# Altium schematic symbol library Resistor.SchLib: 94 symbols
Pins are listed as number, name and electrical type; pins without a type are passive.

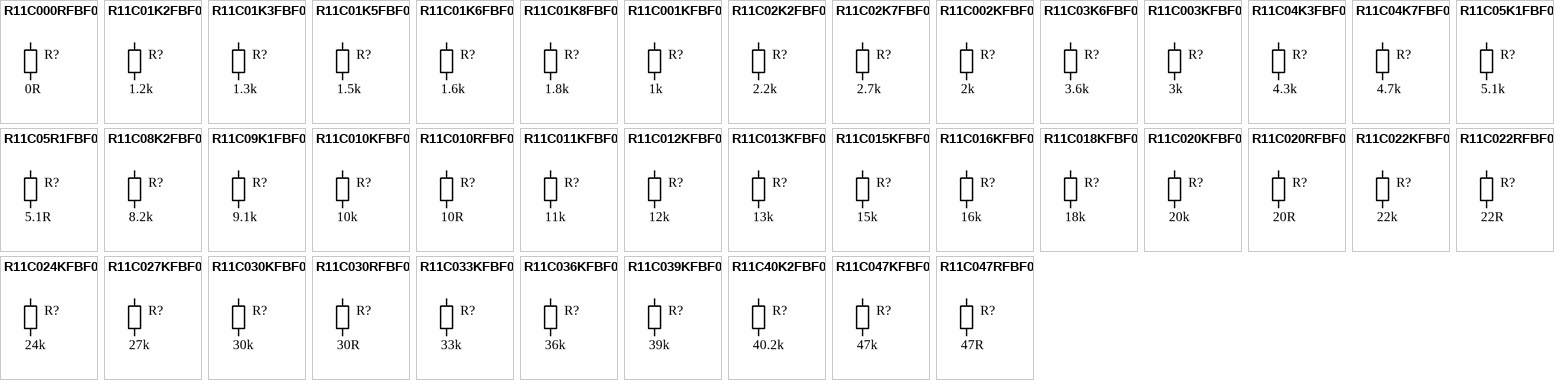
[diagram p0: symbols R11C000RFBF0 to R11C047RFBF0]

## R11C000RFBF0
designator R?, comment value 0R  (hidden comment: Res)
SMD Resistor 0R 1% 1/10W 0603 100PPM; TemperatureRange: -55°C to 150°C; VenderID: RES-0603-0R-1%; Published: 1-Jun-2017; Publisher: GreenBox; MountType: SMT; PackageReference: 0603; Manufacturer: *
simulation model RES (Resistor)
signal-integrity model Res
footprint 0603-R (0603, Body 1.6 x 0.8 mm (LxW typ))
pins: 1, 2

## R11C01K2FBF0
designator R?, comment value 1.2k  (hidden comment: Res)
SMD Resistor 1.2k 1% 1/10W 0603 100PPM; TemperatureRange: -55°C to 150°C; VenderID: RES-0603-1k2-1%; Published: 1-Jun-2017; Publisher: GreenBox; MountType: SMT; PackageReference: 0603; Manufacturer: *
simulation model RES (Resistor)
signal-integrity model Res
footprint 0603-R (0603, Body 1.6 x 0.8 mm (LxW typ))
pins: 1, 2

## R11C01K3FBF0
designator R?, comment value 1.3k  (hidden comment: Res)
SMD Resistor 1.3k 1% 1/10W 0603 100PPM; TemperatureRange: -55°C to 150°C; VenderID: RES-0603-1k3-1%; Published: 1-Jun-2017; Publisher: GreenBox; MountType: SMT; PackageReference: 0603; Manufacturer: *
simulation model RES (Resistor)
signal-integrity model Res
footprint 0603-R (0603, Body 1.6 x 0.8 mm (LxW typ))
pins: 1, 2

## R11C01K5FBF0
designator R?, comment value 1.5k  (hidden comment: Res)
SMD Resistor 1.5k 1% 1/10W 0603 100PPM; TemperatureRange: -55°C to 150°C; VenderID: RES-0603-1k5-1%; Published: 1-Jun-2017; Publisher: GreenBox; MountType: SMT; PackageReference: 0603; Manufacturer: *
simulation model RES (Resistor)
signal-integrity model Res
footprint 0603-R (0603, Body 1.6 x 0.8 mm (LxW typ))
pins: 1, 2

## R11C01K6FBF0
designator R?, comment value 1.6k  (hidden comment: Res)
SMD Resistor 1.6k 1% 1/10W 0603 100PPM; TemperatureRange: -55°C to 150°C; VenderID: RES-0603-1k6-1%; Published: 1-Jun-2017; Publisher: GreenBox; MountType: SMT; PackageReference: 0603; Manufacturer: *
simulation model RES (Resistor)
signal-integrity model Res
footprint 0603-R (0603, Body 1.6 x 0.8 mm (LxW typ))
pins: 1, 2

## R11C01K8FBF0
designator R?, comment value 1.8k  (hidden comment: Res)
SMD Resistor 1.8k 1% 1/10W 0603 100PPM; TemperatureRange: -55°C to 150°C; VenderID: RES-0603-1k8-1%; Published: 1-Jun-2017; Publisher: GreenBox; MountType: SMT; PackageReference: 0603; Manufacturer: *
simulation model RES (Resistor)
signal-integrity model Res
footprint 0603-R (0603, Body 1.6 x 0.8 mm (LxW typ))
pins: 1, 2

## R11C001KFBF0
designator R?, comment value 1k  (hidden comment: Res)
SMD Resistor 1k 1% 1/10W 0603 100PPM; TemperatureRange: -55°C to 150°C; VenderID: RES-0603-1k-1%; Published: 1-Jun-2017; Publisher: GreenBox; MountType: SMT; PackageReference: 0603; Manufacturer: *
simulation model RES (Resistor)
signal-integrity model Res
footprint 0603-R (0603, Body 1.6 x 0.8 mm (LxW typ))
pins: 1, 2

## R11C02K2FBF0
designator R?, comment value 2.2k  (hidden comment: Res)
SMD Resistor 2.2k 1% 1/10W 0603 100PPM; TemperatureRange: -55°C to 150°C; VenderID: RES-0603-2k2-1%; Published: 1-Jun-2017; Publisher: GreenBox; MountType: SMT; PackageReference: 0603; Manufacturer: *
simulation model RES (Resistor)
signal-integrity model Res
footprint 0603-R (0603, Body 1.6 x 0.8 mm (LxW typ))
pins: 1, 2

## R11C02K7FBF0
designator R?, comment value 2.7k  (hidden comment: Res)
SMD Resistor 2.7k 1% 1/10W 0603 100PPM; TemperatureRange: -55°C to 150°C; VenderID: RES-0603-2k7-1%; Published: 1-Jun-2017; Publisher: GreenBox; MountType: SMT; PackageReference: 0603; Manufacturer: *
simulation model RES (Resistor)
signal-integrity model Res
footprint 0603-R (0603, Body 1.6 x 0.8 mm (LxW typ))
pins: 1, 2

## R11C002KFBF0
designator R?, comment value 2k  (hidden comment: Res)
SMD Resistor 2k 1% 1/10W 0603 100PPM; TemperatureRange: -55°C to 150°C; VenderID: RES-0603-2k-1%; Published: 1-Jun-2017; Publisher: GreenBox; MountType: SMT; PackageReference: 0603; Manufacturer: *
simulation model RES (Resistor)
signal-integrity model Res
footprint 0603-R (0603, Body 1.6 x 0.8 mm (LxW typ))
pins: 1, 2

## R11C03K6FBF0
designator R?, comment value 3.6k  (hidden comment: Res)
SMD Resistor 3.6k 1% 1/10W 0603 100PPM; TemperatureRange: -55°C to 150°C; VenderID: RES-0603-3k6-1%; Published: 1-Jun-2017; Publisher: GreenBox; MountType: SMT; PackageReference: 0603; Manufacturer: *
simulation model RES (Resistor)
signal-integrity model Res
footprint 0603-R (0603, Body 1.6 x 0.8 mm (LxW typ))
pins: 1, 2

## R11C003KFBF0
designator R?, comment value 3k  (hidden comment: Res)
SMD Resistor 3k 1% 1/10W 0603 100PPM; TemperatureRange: -55°C to 150°C; VenderID: RES-0603-3k-1%; Published: 1-Jun-2017; Publisher: GreenBox; MountType: SMT; PackageReference: 0603; Manufacturer: *
simulation model RES (Resistor)
signal-integrity model Res
footprint 0603-R (0603, Body 1.6 x 0.8 mm (LxW typ))
pins: 1, 2

## R11C04K3FBF0
designator R?, comment value 4.3k  (hidden comment: Res)
SMD Resistor 4.3k 1% 1/10W 0603 100PPM; TemperatureRange: -55°C to 150°C; VenderID: RES-0603-4k3-1%; Published: 1-Jun-2017; Publisher: GreenBox; MountType: SMT; PackageReference: 0603; Manufacturer: *
simulation model RES (Resistor)
signal-integrity model Res
footprint 0603-R (0603, Body 1.6 x 0.8 mm (LxW typ))
pins: 1, 2

## R11C04K7FBF0
designator R?, comment value 4.7k  (hidden comment: Res)
SMD Resistor 4.7k 1% 1/10W 0603 100PPM; TemperatureRange: -55°C to 150°C; VenderID: RES-0603-4k7-1%; Published: 1-Jun-2017; Publisher: GreenBox; MountType: SMT; PackageReference: 0603; Manufacturer: *
simulation model RES (Resistor)
signal-integrity model Res
footprint 0603-R (0603, Body 1.6 x 0.8 mm (LxW typ))
pins: 1, 2

## R11C05K1FBF0
designator R?, comment value 5.1k  (hidden comment: Res)
SMD Resistor 5.1k 1% 1/10W 0603 100PPM; TemperatureRange: -55°C to 150°C; VenderID: RES-0603-5k1-1%; Published: 1-Jun-2017; Publisher: GreenBox; MountType: SMT; PackageReference: 0603; Manufacturer: *
simulation model RES (Resistor)
signal-integrity model Res
footprint 0603-R (0603, Body 1.6 x 0.8 mm (LxW typ))
pins: 1, 2

## R11C05R1FBF0
designator R?, comment value 5.1R  (hidden comment: Res)
SMD Resistor 5.1R 1% 1/10W 0603 100PPM; TemperatureRange: -55°C to 150°C; VenderID: RES-0603-5R1-1%; Published: 1-Jun-2017; Publisher: GreenBox; MountType: SMT; PackageReference: 0603; Manufacturer: *
simulation model RES (Resistor)
signal-integrity model Res
footprint 0603-R (0603, Body 1.6 x 0.8 mm (LxW typ))
pins: 1, 2

## R11C08K2FBF0
designator R?, comment value 8.2k  (hidden comment: Res)
SMD Resistor 8.2k 1% 1/10W 0603 100PPM; TemperatureRange: -55°C to 150°C; VenderID: RES-0603-8k2-1%; Published: 1-Jun-2017; Publisher: GreenBox; MountType: SMT; PackageReference: 0603; Manufacturer: *
simulation model RES (Resistor)
signal-integrity model Res
footprint 0603-R (0603, Body 1.6 x 0.8 mm (LxW typ))
pins: 1, 2

## R11C09K1FBF0
designator R?, comment value 9.1k  (hidden comment: Res)
SMD Resistor 9.1k 1% 1/10W 0603 100PPM; TemperatureRange: -55°C to 150°C; VenderID: RES-0603-9k1-1%; Published: 1-Jun-2017; Publisher: GreenBox; MountType: SMT; PackageReference: 0603; Manufacturer: *
simulation model RES (Resistor)
signal-integrity model Res
footprint 0603-R (0603, Body 1.6 x 0.8 mm (LxW typ))
pins: 1, 2

## R11C010KFBF0
designator R?, comment value 10k  (hidden comment: Res)
SMD Resistor 10k 1% 1/10W 0603 100PPM; TemperatureRange: -55°C to 150°C; VenderID: RES-0603-10k-1%; Published: 1-Jun-2017; Publisher: GreenBox; MountType: SMT; PackageReference: 0603; Manufacturer: *
simulation model RES (Resistor)
signal-integrity model Res
footprint 0603-R (0603, Body 1.6 x 0.8 mm (LxW typ))
pins: 1, 2

## R11C010RFBF0
designator R?, comment value 10R  (hidden comment: Res)
SMD Resistor 10R 1% 1/10W 0603 100PPM; TemperatureRange: -55°C to 150°C; VenderID: RES-0603-10R-1%; Published: 1-Jun-2017; Publisher: GreenBox; MountType: SMT; PackageReference: 0603; Manufacturer: *
simulation model RES (Resistor)
signal-integrity model Res
footprint 0603-R (0603, Body 1.6 x 0.8 mm (LxW typ))
pins: 1, 2

## R11C011KFBF0
designator R?, comment value 11k  (hidden comment: Res)
SMD Resistor 11k 1% 1/10W 0603 100PPM; TemperatureRange: -55°C to 150°C; VenderID: RES-0603-11k-1%; Published: 1-Jun-2017; Publisher: GreenBox; MountType: SMT; PackageReference: 0603; Manufacturer: *
simulation model RES (Resistor)
signal-integrity model Res
footprint 0603-R (0603, Body 1.6 x 0.8 mm (LxW typ))
pins: 1, 2

## R11C012KFBF0
designator R?, comment value 12k  (hidden comment: Res)
SMD Resistor 12k 1% 1/10W 0603 100PPM; TemperatureRange: -55°C to 150°C; VenderID: RES-0603-12k-1%; Published: 1-Jun-2017; Publisher: GreenBox; MountType: SMT; PackageReference: 0603; Manufacturer: *
simulation model RES (Resistor)
signal-integrity model Res
footprint 0603-R (0603, Body 1.6 x 0.8 mm (LxW typ))
pins: 1, 2

## R11C013KFBF0
designator R?, comment value 13k  (hidden comment: Res)
SMD Resistor 13k 1% 1/10W 0603 100PPM; TemperatureRange: -55°C to 150°C; VenderID: RES-0603-13k-1%; Published: 1-Jun-2017; Publisher: GreenBox; MountType: SMT; PackageReference: 0603; Manufacturer: *
simulation model RES (Resistor)
signal-integrity model Res
footprint 0603-R (0603, Body 1.6 x 0.8 mm (LxW typ))
pins: 1, 2

## R11C015KFBF0
designator R?, comment value 15k  (hidden comment: Res)
SMD Resistor 15k 1% 1/10W 0603 100PPM; TemperatureRange: -55°C to 150°C; VenderID: RES-0603-15k-1%; Published: 1-Jun-2017; Publisher: GreenBox; MountType: SMT; PackageReference: 0603; Manufacturer: *
simulation model RES (Resistor)
signal-integrity model Res
footprint 0603-R (0603, Body 1.6 x 0.8 mm (LxW typ))
pins: 1, 2

## R11C016KFBF0
designator R?, comment value 16k  (hidden comment: Res)
SMD Resistor 16k 1% 1/10W 0603 100PPM; TemperatureRange: -55°C to 150°C; VenderID: RES-0603-16k-1%; Published: 1-Jun-2017; Publisher: GreenBox; MountType: SMT; PackageReference: 0603; Manufacturer: *
simulation model RES (Resistor)
signal-integrity model Res
footprint 0603-R (0603, Body 1.6 x 0.8 mm (LxW typ))
pins: 1, 2

## R11C018KFBF0
designator R?, comment value 18k  (hidden comment: Res)
SMD Resistor 18k 1% 1/10W 0603 100PPM; TemperatureRange: -55°C to 150°C; VenderID: RES-0603-18k-1%; Published: 1-Jun-2017; Publisher: GreenBox; MountType: SMT; PackageReference: 0603; Manufacturer: *
simulation model RES (Resistor)
signal-integrity model Res
footprint 0603-R (0603, Body 1.6 x 0.8 mm (LxW typ))
pins: 1, 2

## R11C020KFBF0
designator R?, comment value 20k  (hidden comment: Res)
SMD Resistor 20k 1% 1/10W 0603 100PPM; TemperatureRange: -55°C to 150°C; VenderID: RES-0603-20k-1%; Published: 1-Jun-2017; Publisher: GreenBox; MountType: SMT; PackageReference: 0603; Manufacturer: *
simulation model RES (Resistor)
signal-integrity model Res
footprint 0603-R (0603, Body 1.6 x 0.8 mm (LxW typ))
pins: 1, 2

## R11C020RFBF0
designator R?, comment value 20R  (hidden comment: Res)
SMD Resistor 20R 1% 1/10W 0603 100PPM; TemperatureRange: -55°C to 150°C; VenderID: RES-0603-20R-1%; Published: 1-Jun-2017; Publisher: GreenBox; MountType: SMT; PackageReference: 0603; Manufacturer: *
simulation model RES (Resistor)
signal-integrity model Res
footprint 0603-R (0603, Body 1.6 x 0.8 mm (LxW typ))
pins: 1, 2

## R11C022KFBF0
designator R?, comment value 22k  (hidden comment: Res)
SMD Resistor 22k 1% 1/10W 0603 100PPM; TemperatureRange: -55°C to 150°C; VenderID: RES-0603-22k-1%; Published: 1-Jun-2017; Publisher: GreenBox; MountType: SMT; PackageReference: 0603; Manufacturer: *
simulation model RES (Resistor)
signal-integrity model Res
footprint 0603-R (0603, Body 1.6 x 0.8 mm (LxW typ))
pins: 1, 2

## R11C022RFBF0
designator R?, comment value 22R  (hidden comment: Res)
SMD Resistor 22R 1% 1/10W 0603 100PPM; TemperatureRange: -55°C to 150°C; VenderID: RES-0603-22R-1%; Published: 1-Jun-2017; Publisher: GreenBox; MountType: SMT; PackageReference: 0603; Manufacturer: *
simulation model RES (Resistor)
signal-integrity model Res
footprint 0603-R (0603, Body 1.6 x 0.8 mm (LxW typ))
pins: 1, 2

## R11C024KFBF0
designator R?, comment value 24k  (hidden comment: Res)
SMD Resistor 24k 1% 1/10W 0603 100PPM; TemperatureRange: -55°C to 150°C; VenderID: RES-0603-24k-1%; Published: 1-Jun-2017; Publisher: GreenBox; MountType: SMT; PackageReference: 0603; Manufacturer: *
simulation model RES (Resistor)
signal-integrity model Res
footprint 0603-R (0603, Body 1.6 x 0.8 mm (LxW typ))
pins: 1, 2

## R11C027KFBF0
designator R?, comment value 27k  (hidden comment: Res)
SMD Resistor 27k 1% 1/10W 0603 100PPM; TemperatureRange: -55°C to 150°C; VenderID: RES-0603-27k-1%; Published: 1-Jun-2017; Publisher: GreenBox; MountType: SMT; PackageReference: 0603; Manufacturer: *
simulation model RES (Resistor)
signal-integrity model Res
footprint 0603-R (0603, Body 1.6 x 0.8 mm (LxW typ))
pins: 1, 2

## R11C030KFBF0
designator R?, comment value 30k  (hidden comment: Res)
SMD Resistor 30k 1% 1/10W 0603 100PPM; TemperatureRange: -55°C to 150°C; VenderID: RES-0603-30k-1%; Published: 1-Jun-2017; Publisher: GreenBox; MountType: SMT; PackageReference: 0603; Manufacturer: *
simulation model RES (Resistor)
signal-integrity model Res
footprint 0603-R (0603, Body 1.6 x 0.8 mm (LxW typ))
pins: 1, 2

## R11C030RFBF0
designator R?, comment value 30R  (hidden comment: Res)
SMD Resistor 30R 1% 1/10W 0603 100PPM; TemperatureRange: -55°C to 150°C; VenderID: RES-0603-30R-1%; Published: 1-Jun-2017; Publisher: GreenBox; MountType: SMT; PackageReference: 0603; Manufacturer: *
simulation model RES (Resistor)
signal-integrity model Res
footprint 0603-R (0603, Body 1.6 x 0.8 mm (LxW typ))
pins: 1, 2

## R11C033KFBF0
designator R?, comment value 33k  (hidden comment: Res)
SMD Resistor 33k 1% 1/10W 0603 100PPM; TemperatureRange: -55°C to 150°C; VenderID: RES-0603-33k-1%; Published: 1-Jun-2017; Publisher: GreenBox; MountType: SMT; PackageReference: 0603; Manufacturer: *
simulation model RES (Resistor)
signal-integrity model Res
footprint 0603-R (0603, Body 1.6 x 0.8 mm (LxW typ))
pins: 1, 2

## R11C036KFBF0
designator R?, comment value 36k  (hidden comment: Res)
SMD Resistor 36k 1% 1/10W 0603 100PPM; TemperatureRange: -55°C to 150°C; VenderID: RES-0603-36k-1%; Published: 1-Jun-2017; Publisher: GreenBox; MountType: SMT; PackageReference: 0603; Manufacturer: *
simulation model RES (Resistor)
signal-integrity model Res
footprint 0603-R (0603, Body 1.6 x 0.8 mm (LxW typ))
pins: 1, 2

## R11C039KFBF0
designator R?, comment value 39k  (hidden comment: Res)
SMD Resistor 39k 1% 1/10W 0603 100PPM; TemperatureRange: -55°C to 150°C; VenderID: RES-0603-39k-1%; Published: 1-Jun-2017; Publisher: GreenBox; MountType: SMT; PackageReference: 0603; Manufacturer: *
simulation model RES (Resistor)
signal-integrity model Res
footprint 0603-R (0603, Body 1.6 x 0.8 mm (LxW typ))
pins: 1, 2

## R11C40K2FBF0
designator R?, comment value 40.2k  (hidden comment: Res)
SMD Resistor 40.2k 1% 1/10W 0603 100PPM; TemperatureRange: -55°C to 150°C; VenderID: RES-0603-40k2-1%; Published: 1-Jul-2018; Publisher: GreenBox; MountType: SMT; PackageReference: 0603; Manufacturer: *
simulation model RES (Resistor)
signal-integrity model Res
footprint 0603-R (0603, Body 1.6 x 0.8 mm (LxW typ))
pins: 1, 2

## R11C047KFBF0
designator R?, comment value 47k  (hidden comment: Res)
SMD Resistor 47k 1% 1/10W 0603 100PPM; TemperatureRange: -55°C to 150°C; VenderID: RES-0603-47k-1%; Published: 1-Jun-2017; Publisher: GreenBox; MountType: SMT; PackageReference: 0603; Manufacturer: *
simulation model RES (Resistor)
signal-integrity model Res
footprint 0603-R (0603, Body 1.6 x 0.8 mm (LxW typ))
pins: 1, 2

## R11C047RFBF0
designator R?, comment value 47R  (hidden comment: Res)
SMD Resistor 47R 1% 1/10W 0603 100PPM; TemperatureRange: -55°C to 150°C; VenderID: RES-0603-47R-1%; Published: 1-Jun-2017; Publisher: GreenBox; MountType: SMT; PackageReference: 0603; Manufacturer: *
simulation model RES (Resistor)
signal-integrity model Res
footprint 0603-R (0603, Body 1.6 x 0.8 mm (LxW typ))
pins: 1, 2

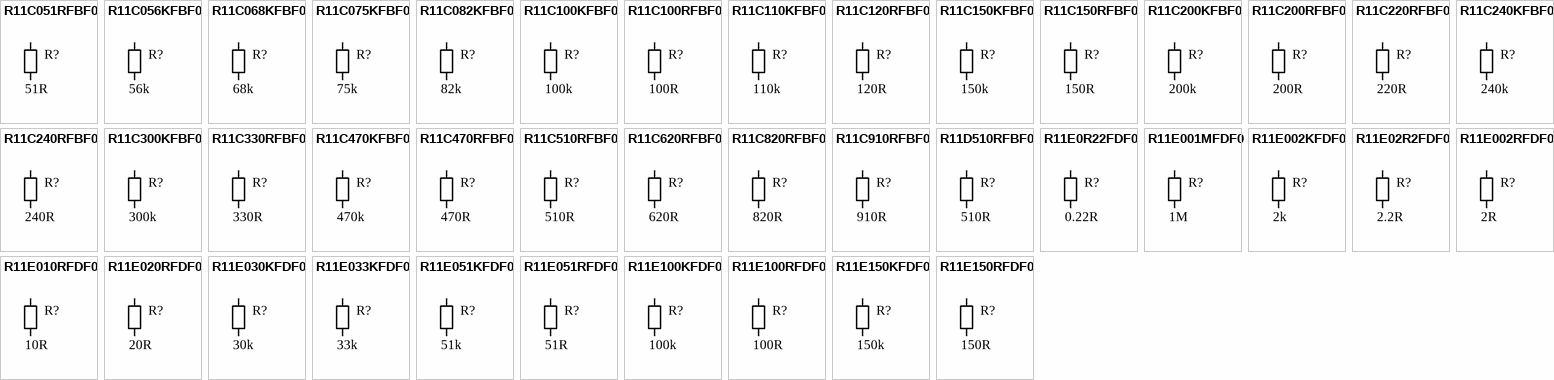
[diagram p1: symbols R11C051RFBF0 to R11E150RFDF0]

## R11C051RFBF0
designator R?, comment value 51R  (hidden comment: Res)
SMD Resistor 51R 1% 1/10W 0603 100PPM; TemperatureRange: -55°C to 150°C; VenderID: RES-0603-51R-1%; Published: 1-Jun-2017; Publisher: GreenBox; MountType: SMT; PackageReference: 0603; Manufacturer: *
simulation model RES (Resistor)
signal-integrity model Res
footprint 0603-R (0603, Body 1.6 x 0.8 mm (LxW typ))
pins: 1, 2

## R11C056KFBF0
designator R?, comment value 56k  (hidden comment: Res)
SMD Resistor 56k 1% 1/10W 0603 100PPM; TemperatureRange: -55°C to 150°C; VenderID: RES-0603-56k-1%; Published: 1-Jun-2017; Publisher: GreenBox; MountType: SMT; PackageReference: 0603; Manufacturer: *
simulation model RES (Resistor)
signal-integrity model Res
footprint 0603-R (0603, Body 1.6 x 0.8 mm (LxW typ))
pins: 1, 2

## R11C068KFBF0
designator R?, comment value 68k  (hidden comment: Res)
SMD Resistor 68k 1% 1/10W 0603 100PPM; TemperatureRange: -55°C to 150°C; VenderID: RES-0603-68k-1%; Published: 1-Jun-2017; Publisher: GreenBox; MountType: SMT; PackageReference: 0603; Manufacturer: *
simulation model RES (Resistor)
signal-integrity model Res
footprint 0603-R (0603, Body 1.6 x 0.8 mm (LxW typ))
pins: 1, 2

## R11C075KFBF0
designator R?, comment value 75k  (hidden comment: Res)
SMD Resistor 75k 1% 1/10W 0603 100PPM; TemperatureRange: -55°C to 150°C; VenderID: RES-0603-75k-1%; Published: 1-Jun-2017; Publisher: GreenBox; MountType: SMT; PackageReference: 0603; Manufacturer: *
simulation model RES (Resistor)
signal-integrity model Res
footprint 0603-R (0603, Body 1.6 x 0.8 mm (LxW typ))
pins: 1, 2

## R11C082KFBF0
designator R?, comment value 82k  (hidden comment: Res)
SMD Resistor 82k 1% 1/10W 0603 100PPM; TemperatureRange: -55°C to 150°C; VenderID: RES-0603-82k-1%; Published: 1-Jun-2017; Publisher: GreenBox; MountType: SMT; PackageReference: 0603; Manufacturer: *
simulation model RES (Resistor)
signal-integrity model Res
footprint 0603-R (0603, Body 1.6 x 0.8 mm (LxW typ))
pins: 1, 2

## R11C100KFBF0
designator R?, comment value 100k  (hidden comment: Res)
SMD Resistor 100k 1% 1/10W 0603 100PPM; TemperatureRange: -55°C to 150°C; VenderID: RES-0603-100k-1%; Published: 1-Jun-2017; Publisher: GreenBox; MountType: SMT; PackageReference: 0603; Manufacturer: *
simulation model RES (Resistor)
signal-integrity model Res
footprint 0603-R (0603, Body 1.6 x 0.8 mm (LxW typ))
pins: 1, 2

## R11C100RFBF0
designator R?, comment value 100R  (hidden comment: Res)
SMD Resistor 100R 1% 1/10W 0603 100PPM; TemperatureRange: -55°C to 150°C; VenderID: RES-0603-100R-1%; Published: 1-Jun-2017; Publisher: GreenBox; MountType: SMT; PackageReference: 0603; Manufacturer: *
simulation model RES (Resistor)
signal-integrity model Res
footprint 0603-R (0603, Body 1.6 x 0.8 mm (LxW typ))
pins: 1, 2

## R11C110KFBF0
designator R?, comment value 110k  (hidden comment: Res)
SMD Resistor 110k 1% 1/10W 0603 100PPM; TemperatureRange: -55°C to 150°C; VenderID: RES-0603-110k-1%; Published: 1-Jun-2017; Publisher: GreenBox; MountType: SMT; PackageReference: 0603; Manufacturer: *
simulation model RES (Resistor)
signal-integrity model Res
footprint 0603-R (0603, Body 1.6 x 0.8 mm (LxW typ))
pins: 1, 2

## R11C120RFBF0
designator R?, comment value 120R  (hidden comment: Res)
SMD Resistor 120R 1% 1/10W 0603 100PPM; TemperatureRange: -55°C to 150°C; VenderID: RES-0603-120R-1%; Published: 1-Jun-2017; Publisher: GreenBox; MountType: SMT; PackageReference: 0603; Manufacturer: *
simulation model RES (Resistor)
signal-integrity model Res
footprint 0603-R (0603, Body 1.6 x 0.8 mm (LxW typ))
pins: 1, 2

## R11C150KFBF0
designator R?, comment value 150k  (hidden comment: Res)
SMD Resistor 150k 1% 1/10W 0603 100PPM; TemperatureRange: -55°C to 150°C; VenderID: RES-0603-150k-1%; Published: 1-Jun-2017; Publisher: GreenBox; MountType: SMT; PackageReference: 0603; Manufacturer: *
simulation model RES (Resistor)
signal-integrity model Res
footprint 0603-R (0603, Body 1.6 x 0.8 mm (LxW typ))
pins: 1, 2

## R11C150RFBF0
designator R?, comment value 150R  (hidden comment: Res)
SMD Resistor 150R 1% 1/10W 0603 100PPM; TemperatureRange: -55°C to 150°C; VenderID: RES-0603-150R-1%; Published: 1-Jun-2017; Publisher: GreenBox; MountType: SMT; PackageReference: 0603; Manufacturer: *
simulation model RES (Resistor)
signal-integrity model Res
footprint 0603-R (0603, Body 1.6 x 0.8 mm (LxW typ))
pins: 1, 2

## R11C200KFBF0
designator R?, comment value 200k  (hidden comment: Res)
SMD Resistor 200k 1% 1/10W 0603 100PPM; TemperatureRange: -55°C to 150°C; VenderID: RES-0603-200k-1%; Published: 1-Jun-2017; Publisher: GreenBox; MountType: SMT; PackageReference: 0603; Manufacturer: *
simulation model RES (Resistor)
signal-integrity model Res
footprint 0603-R (0603, Body 1.6 x 0.8 mm (LxW typ))
pins: 1, 2

## R11C200RFBF0
designator R?, comment value 200R  (hidden comment: Res)
SMD Resistor 200R 1% 1/10W 0603 100PPM; TemperatureRange: -55°C to 150°C; VenderID: RES-0603-200R-1%; Published: 1-Jun-2017; Publisher: GreenBox; MountType: SMT; PackageReference: 0603; Manufacturer: *
simulation model RES (Resistor)
signal-integrity model Res
footprint 0603-R (0603, Body 1.6 x 0.8 mm (LxW typ))
pins: 1, 2

## R11C220RFBF0
designator R?, comment value 220R  (hidden comment: Res)
SMD Resistor 220R 1% 1/10W 0603 100PPM; TemperatureRange: -55°C to 150°C; VenderID: RES-0603-220R-1%; Published: 1-Jun-2017; Publisher: GreenBox; MountType: SMT; PackageReference: 0603; Manufacturer: *
simulation model RES (Resistor)
signal-integrity model Res
footprint 0603-R (0603, Body 1.6 x 0.8 mm (LxW typ))
pins: 1, 2

## R11C240KFBF0
designator R?, comment value 240k  (hidden comment: Res)
SMD Resistor 240k 1% 1/10W 0603 100PPM; TemperatureRange: -55°C to 150°C; VenderID: RES-0603-240k-1%; Published: 1-Jun-2017; Publisher: GreenBox; MountType: SMT; PackageReference: 0603; Manufacturer: *
simulation model RES (Resistor)
signal-integrity model Res
footprint 0603-R (0603, Body 1.6 x 0.8 mm (LxW typ))
pins: 1, 2

## R11C240RFBF0
designator R?, comment value 240R  (hidden comment: Res)
SMD Resistor 240R 1% 1/10W 0603 100PPM; TemperatureRange: -55°C to 150°C; VenderID: RES-0603-240R-1%; Published: 1-Jun-2017; Publisher: GreenBox; MountType: SMT; PackageReference: 0603; Manufacturer: *
simulation model RES (Resistor)
signal-integrity model Res
footprint 0603-R (0603, Body 1.6 x 0.8 mm (LxW typ))
pins: 1, 2

## R11C300KFBF0
designator R?, comment value 300k  (hidden comment: Res)
SMD Resistor 300k 1% 1/10W 0603 100PPM; TemperatureRange: -55°C to 150°C; VenderID: RES-0603-300k-1%; Published: 1-Jun-2017; Publisher: GreenBox; MountType: SMT; PackageReference: 0603; Manufacturer: *
simulation model RES (Resistor)
signal-integrity model Res
footprint 0603-R (0603, Body 1.6 x 0.8 mm (LxW typ))
pins: 1, 2

## R11C330RFBF0
designator R?, comment value 330R  (hidden comment: Res)
SMD Resistor 330R 1% 1/10W 0603 100PPM; TemperatureRange: -55°C to 150°C; VenderID: RES-0603-330R-1%; Published: 1-Jun-2017; Publisher: GreenBox; MountType: SMT; PackageReference: 0603; Manufacturer: *
simulation model RES (Resistor)
signal-integrity model Res
footprint 0603-R (0603, Body 1.6 x 0.8 mm (LxW typ))
pins: 1, 2

## R11C470KFBF0
designator R?, comment value 470k  (hidden comment: Res)
SMD Resistor 470k 1% 1/10W 0603 100PPM; TemperatureRange: -55°C to 150°C; VenderID: RES-0603-470k-1%; Published: 1-Jun-2017; Publisher: GreenBox; MountType: SMT; PackageReference: 0603; Manufacturer: *
simulation model RES (Resistor)
signal-integrity model Res
footprint 0603-R (0603, Body 1.6 x 0.8 mm (LxW typ))
pins: 1, 2

## R11C470RFBF0
designator R?, comment value 470R  (hidden comment: Res)
SMD Resistor 470R 1% 1/10W 0603 100PPM; TemperatureRange: -55°C to 150°C; VenderID: RES-0603-470R-1%; Published: 1-Jun-2017; Publisher: GreenBox; MountType: SMT; PackageReference: 0603; Manufacturer: *
simulation model RES (Resistor)
signal-integrity model Res
footprint 0603-R (0603, Body 1.6 x 0.8 mm (LxW typ))
pins: 1, 2

## R11C510RFBF0
designator R?, comment value 510R  (hidden comment: Res)
SMD Resistor 510R 1% 1/10W 0603 100PPM; TemperatureRange: -55°C to 150°C; VenderID: RES-0603-510R-1%; Published: 1-Jun-2017; Publisher: GreenBox; MountType: SMT; PackageReference: 0603; Manufacturer: *
simulation model RES (Resistor)
signal-integrity model Res
footprint 0603-R (0603, Body 1.6 x 0.8 mm (LxW typ))
pins: 1, 2

## R11C620RFBF0
designator R?, comment value 620R  (hidden comment: Res)
SMD Resistor 620R 1% 1/10W 0603 100PPM; TemperatureRange: -55°C to 150°C; VenderID: RES-0603-620R-1%; Published: 1-Jun-2017; Publisher: GreenBox; MountType: SMT; PackageReference: 0603; Manufacturer: *
simulation model RES (Resistor)
signal-integrity model Res
footprint 0603-R (0603, Body 1.6 x 0.8 mm (LxW typ))
pins: 1, 2

## R11C820RFBF0
designator R?, comment value 820R  (hidden comment: Res)
SMD Resistor 820R 1% 1/10W 0603 100PPM; TemperatureRange: -55°C to 150°C; VenderID: RES-0603-820R-1%; Published: 1-Jun-2017; Publisher: GreenBox; MountType: SMT; PackageReference: 0603; Manufacturer: *
simulation model RES (Resistor)
signal-integrity model Res
footprint 0603-R (0603, Body 1.6 x 0.8 mm (LxW typ))
pins: 1, 2

## R11C910RFBF0
designator R?, comment value 910R  (hidden comment: Res)
SMD Resistor 910R 1% 1/10W 0603 100PPM; TemperatureRange: -55°C to 150°C; VenderID: RES-0603-910R-1%; Published: 1-Jun-2017; Publisher: GreenBox; MountType: SMT; PackageReference: 0603; Manufacturer: *
simulation model RES (Resistor)
signal-integrity model Res
footprint 0603-R (0603, Body 1.6 x 0.8 mm (LxW typ))
pins: 1, 2

## R11D510RFBF0
designator R?, comment value 510R  (hidden comment: Res)
SMD Resistor 510R 1% 1/10W 0805 100PPM; TemperatureRange: -55°C to 150°C; VenderID: RES-0805-510R-1%; Published: 1-Jun-2017; Publisher: GreenBox; MountType: SMT; PackageReference: 0805; Manufacturer: *
simulation model RES (Resistor)
signal-integrity model Res
footprint 0805-R (0805, Body 2.0 x 1.3 mm (LxW typ))
pins: 1, 2

## R11E0R22FDF0
designator R?, comment value 0.22R  (hidden comment: Res)
SMD Resistor 0.22R 1% 1/4W 1206 100PPM; TemperatureRange: -55°C to 150°C; VenderID: RES-1206-0.22R-1%; Published: 1-Jun-2017; Publisher: GreenBox; MountType: SMT; PackageReference: 1206; Manufacturer: *
simulation model RES (Resistor)
signal-integrity model Res
footprint 1206-R (Body 3.2 x 1.6 mm (LxW typ))
pins: 1, 2

## R11E001MFDF0
designator R?, comment value 1M  (hidden comment: Res)
SMD Resistor 1M 1% 1/4W 1206 100PPM; TemperatureRange: -55°C to 150°C; VenderID: RES-1206-1M-1%; Published: 1-Jun-2017; Publisher: GreenBox; MountType: SMT; PackageReference: 1206; Manufacturer: *
simulation model RES (Resistor)
signal-integrity model Res
footprint 1206-R (Body 3.2 x 1.6 mm (LxW typ))
pins: 1, 2

## R11E002KFDF0
designator R?, comment value 2k  (hidden comment: Res)
SMD Resistor 2k 1% 1/4W 1206 100PPM; TemperatureRange: -55°C to 150°C; VenderID: RES-1206-2k-1%; Published: 1-Jun-2017; Publisher: GreenBox; MountType: SMT; PackageReference: 1206; Manufacturer: *
simulation model RES (Resistor)
signal-integrity model Res
footprint 1206-R (Body 3.2 x 1.6 mm (LxW typ))
pins: 1, 2

## R11E02R2FDF0
designator R?, comment value 2.2R  (hidden comment: Res)
SMD Resistor 2.2R 1% 1/4W 1206 100PPM; TemperatureRange: -55°C to 150°C; VenderID: RES-1206-2R2-1%; Published: 1-Jun-2017; Publisher: GreenBox; MountType: SMT; PackageReference: 1206; Manufacturer: *
simulation model RES (Resistor)
signal-integrity model Res
footprint 1206-R (Body 3.2 x 1.6 mm (LxW typ))
pins: 1, 2

## R11E002RFDF0
designator R?, comment value 2R  (hidden comment: Res)
SMD Resistor 2R 1% 1/4W 1206 100PPM; TemperatureRange: -55°C to 150°C; VenderID: RES-1206-2R-1%; Published: 1-Jun-2017; Publisher: GreenBox; MountType: SMT; PackageReference: 1206; Manufacturer: *
simulation model RES (Resistor)
signal-integrity model Res
footprint 1206-R (Body 3.2 x 1.6 mm (LxW typ))
pins: 1, 2

## R11E010RFDF0
designator R?, comment value 10R  (hidden comment: Res)
SMD Resistor 10R 1% 1/4W 1206 100PPM; TemperatureRange: -55°C to 150°C; VenderID: RES-1206-10R-1%; Published: 1-Jun-2017; Publisher: GreenBox; MountType: SMT; PackageReference: 1206; Manufacturer: *
simulation model RES (Resistor)
signal-integrity model Res
footprint 1206-R (Body 3.2 x 1.6 mm (LxW typ))
pins: 1, 2

## R11E020RFDF0
designator R?, comment value 20R  (hidden comment: Res)
SMD Resistor 20R 1% 1/4W 1206 100PPM; TemperatureRange: -55°C to 150°C; VenderID: RES-1206-20R-1%; Published: 1-Jun-2017; Publisher: GreenBox; MountType: SMT; PackageReference: 1206; Manufacturer: *
simulation model RES (Resistor)
signal-integrity model Res
footprint 1206-R (Body 3.2 x 1.6 mm (LxW typ))
pins: 1, 2

## R11E030KFDF0
designator R?, comment value 30k  (hidden comment: Res)
SMD Resistor 30k 1% 1/4W 1206 100PPM; TemperatureRange: -55°C to 150°C; VenderID: RES-1206-30k-1%; Published: 1-Jun-2017; Publisher: GreenBox; MountType: SMT; PackageReference: 1206; Manufacturer: *
simulation model RES (Resistor)
signal-integrity model Res
footprint 1206-R (Body 3.2 x 1.6 mm (LxW typ))
pins: 1, 2

## R11E033KFDF0
designator R?, comment value 33k  (hidden comment: Res)
SMD Resistor 33k 1% 1/4W 1206 100PPM; TemperatureRange: -55°C to 150°C; VenderID: RES-1206-33k-1%; Published: 1-Jun-2017; Publisher: GreenBox; MountType: SMT; PackageReference: 1206; Manufacturer: *
simulation model RES (Resistor)
signal-integrity model Res
footprint 1206-R (Body 3.2 x 1.6 mm (LxW typ))
pins: 1, 2

## R11E051KFDF0
designator R?, comment value 51k  (hidden comment: Res)
SMD Resistor 51k 1% 1/4W 1206 100PPM; TemperatureRange: -55°C to 150°C; VenderID: RES-1206-51k-1%; Published: 1-Jun-2017; Publisher: GreenBox; MountType: SMT; PackageReference: 1206; Manufacturer: *
simulation model RES (Resistor)
signal-integrity model Res
footprint 1206-R (Body 3.2 x 1.6 mm (LxW typ))
pins: 1, 2

## R11E051RFDF0
designator R?, comment value 51R  (hidden comment: Res)
SMD Resistor 51R 1% 1/4W 1206 100PPM; TemperatureRange: -55°C to 150°C; VenderID: RES-1206-51R-1%; Published: 1-Jun-2017; Publisher: GreenBox; MountType: SMT; PackageReference: 1206; Manufacturer: *
simulation model RES (Resistor)
signal-integrity model Res
footprint 1206-R (Body 3.2 x 1.6 mm (LxW typ))
pins: 1, 2

## R11E100KFDF0
designator R?, comment value 100k  (hidden comment: Res)
SMD Resistor 100k 1% 1/4W 1206 100PPM; TemperatureRange: -55°C to 150°C; VenderID: RES-1206-100k-1%; Published: 1-Jun-2017; Publisher: GreenBox; MountType: SMT; PackageReference: 1206; Manufacturer: *
simulation model RES (Resistor)
signal-integrity model Res
footprint 1206-R (Body 3.2 x 1.6 mm (LxW typ))
pins: 1, 2

## R11E100RFDF0
designator R?, comment value 100R  (hidden comment: Res)
SMD Resistor 100R 1% 1/4W 1206 100PPM; TemperatureRange: -55°C to 150°C; VenderID: RES-1206-100R-1%; Published: 1-Jun-2017; Publisher: GreenBox; MountType: SMT; PackageReference: 1206; Manufacturer: *
simulation model RES (Resistor)
signal-integrity model Res
footprint 1206-R (Body 3.2 x 1.6 mm (LxW typ))
pins: 1, 2

## R11E150KFDF0
designator R?, comment value 150k  (hidden comment: Res)
SMD Resistor 150k 1% 1/4W 1206 100PPM; TemperatureRange: -55°C to 150°C; VenderID: RES-1206-150k-1%; Published: 1-Jun-2017; Publisher: GreenBox; MountType: SMT; PackageReference: 1206; Manufacturer: *
simulation model RES (Resistor)
signal-integrity model Res
footprint 1206-R (Body 3.2 x 1.6 mm (LxW typ))
pins: 1, 2

## R11E150RFDF0
designator R?, comment value 150R  (hidden comment: Res)
SMD Resistor 150R 1% 1/4W 1206 100PPM; TemperatureRange: -55°C to 150°C; VenderID: RES-1206-150R-1%; Published: 1-Jun-2017; Publisher: GreenBox; MountType: SMT; PackageReference: 1206; Manufacturer: *
simulation model RES (Resistor)
signal-integrity model Res
footprint 1206-R (Body 3.2 x 1.6 mm (LxW typ))
pins: 1, 2

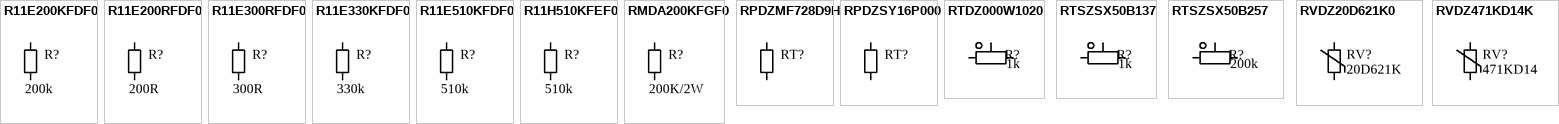
[diagram p2: symbols R11E200KFDF0 to RVDZ471KD14K]

## R11E200KFDF0
designator R?, comment value 200k  (hidden comment: Res)
SMD Resistor 200k 1% 1/4W 1206 100PPM; TemperatureRange: -55°C to 150°C; VenderID: RES-1206-200k-1%; Published: 1-Jun-2017; Publisher: GreenBox; MountType: SMT; PackageReference: 1206; Manufacturer: *
simulation model RES (Resistor)
signal-integrity model Res
footprint 1206-R (Body 3.2 x 1.6 mm (LxW typ))
pins: 1, 2

## R11E200RFDF0
designator R?, comment value 200R  (hidden comment: Res)
SMD Resistor 200R 1% 1/4W 1206 100PPM; TemperatureRange: -55°C to 150°C; VenderID: RES-1206-200R-1%; Published: 1-Jun-2017; Publisher: GreenBox; MountType: SMT; PackageReference: 1206; Manufacturer: *
simulation model RES (Resistor)
signal-integrity model Res
footprint 1206-R (Body 3.2 x 1.6 mm (LxW typ))
pins: 1, 2

## R11E300RFDF0
designator R?, comment value 300R  (hidden comment: Res)
SMD Resistor 300R 1% 1/4W 1206 100PPM; TemperatureRange: -55°C to 150°C; VenderID: RES-1206-300R-1%; Published: 1-Jun-2017; Publisher: GreenBox; MountType: SMT; PackageReference: 1206; Manufacturer: *
simulation model RES (Resistor)
signal-integrity model Res
footprint 1206-R (Body 3.2 x 1.6 mm (LxW typ))
pins: 1, 2

## R11E330KFDF0
designator R?, comment value 330k  (hidden comment: Res)
SMD Resistor 330k 1% 1/4W 1206 100PPM; TemperatureRange: -55°C to 150°C; VenderID: RES-1206-330k-1%; Published: 1-Jun-2017; Publisher: GreenBox; MountType: SMT; PackageReference: 1206; Manufacturer: *
simulation model RES (Resistor)
signal-integrity model Res
footprint 1206-R (Body 3.2 x 1.6 mm (LxW typ))
pins: 1, 2

## R11E510KFDF0
designator R?, comment value 510k  (hidden comment: Res)
SMD Resistor 510k 1% 1/4W 1206 100PPM; TemperatureRange: -55°C to 150°C; VenderID: RES-1206-510k-1%; Published: 1-Jun-2017; Publisher: GreenBox; MountType: SMT; PackageReference: 1206; Manufacturer: *
simulation model RES (Resistor)
signal-integrity model Res
footprint 1206-R (Body 3.2 x 1.6 mm (LxW typ))
pins: 1, 2

## R11H510KFEF0
designator R?, comment value 510k  (hidden comment: Res)
SMD Resistor 510k 1% 1/2W 1812 100PPM; TemperatureRange: -55°C to 150°C; VenderID: RES-1812-510k-1%; Published: 1-Jun-2017; Publisher: GreenBox; MountType: SMT; PackageReference: 1812; Manufacturer: *
simulation model RES (Resistor)
signal-integrity model Res
footprint 1812-R (Molded Inductor, 2-Leads, Body 4.55x3.24mm, IPC Medium Density)
pins: 1, 2

## RMDA200KFGF0
designator R?, comment value 200K/2W  (hidden comment: Res)
Metal Film Resistor 200KR 1% 2W0 AXIAL 100PPM; TemperatureRange: -55°C to 150°C; VenderID: 200K-2W-1%; Published: 1-Jun-2017; Publisher: GreenBox; MountType: DIP; PackageReference: AXIAL; Manufacturer: *
simulation model RES (Resistor)
signal-integrity model Res
footprint AXIAL-5mm (Resistor; 2 Leads)
footprint AXIAL-0.8 (Resistor; 2 Leads)
pins: 1, 2

## RPDZMF728D9H
designator RT?, comment MF72 8D9  (value not drawn)
POWER NTC MF72 8D9 8R±20%; Manufacturer: SHIHENG; Published: 1-Jun-2017; Publisher: GreenBox; MountType: DIP; PackageReference: MF72-D9; TemperatureRange: *; VenderID: MF72 8D9
footprint MF72-D9
pins: 1, 2

## RPDZSY16P000
designator RT?, comment SY16P  (value not drawn)
PTC SY16P; Published: 1-Jun-2017; Publisher: GreenBox; MountType: DIP; PackageReference: PTC-16P; TemperatureRange: *; VenderID: PTC SY16P; Manufacturer: *
footprint PTC-16P (Body 21.5 x 6.3 mm (LxW typ))
pins: 1, 2

## RTDZ000W1020
designator R?, comment value 1k  (hidden comment: 3296W102)
Square Trimming Potentiometer 3296W102; TemperatureRange: -55°C to 125°C; Published: 1-Jun-2017; Publisher: GreenBox; MountType: DIP; PackageReference: 3296W; VenderID: 3296W102; Manufacturer: *
footprint 3296W
pins: 1, 2, 3

## RTSZSX50B137
designator R?, comment value 1k  (hidden comment: EVM3ESX50B13)
Square Trimming Potentiometer EVM3ESX50B13 1k; Manufacturer: PANASONIC; TemperatureRange: -55°C to 125°C; Published: 1-Jun-2017; Publisher: GreenBox; MountType: SMT; PackageReference: RP-3X3; VenderID: EVM3ESX50B13
footprint RP-3X3 (5032; Body 5.0 x 3.2 x 1.2 mm)
pins: 1, 2, 3

## RTSZSX50B257
designator R?, comment value 200k  (hidden comment: EVM3ESX50B25)
Square Trimming Potentiometer EVM3ESX50B25 200k; Manufacturer: PANASONIC; TemperatureRange: -55°C to 125°C; Published: 1-Jun-2017; Publisher: GreenBox; MountType: SMT; PackageReference: RP-3X3; VenderID: EVM3ESX50B25
footprint RP-3X3 (5032; Body 5.0 x 3.2 x 1.2 mm)
pins: 1, 2, 3

## RVDZ20D621K0
designator RV?, comment 20D621K
VDR 620V 385VAC 20D621K; TemperatureRange: -40°C to 85°C; Published: 1-Jun-2017; Publisher: GreenBox; MountType: DIP; PackageReference: VDR-20D621K; VenderID: 20D621K; Manufacturer: *
footprint VDR-20D621K (Body 21.5 x 6.3 mm (LxW typ))
pins: 1, 2

## RVDZ471KD14K
designator RV?, comment 471KD14
VDR 471KD14; Manufacturer: BRIGHTKING; TemperatureRange: -40°C to 85°C; Published: 1-Jun-2017; Publisher: GreenBox; MountType: DIP; PackageReference: VDR-D14-F; VenderID: 471KD14
footprint VDR-D14-F
pins: 1, 2